# Altium footprint library TL1105AF160Q.PcbLib: 1 footprints
Each footprint in its own frame and in the unit in brackets; x right, y up, seen from the top. Pads: shape width x height; smd on the part's side, far side on the other; paste and mask are expansions set on the pad; w line width, h text height; cw(c..) or ccw(c..) is an arc to the next point about the centre after c.
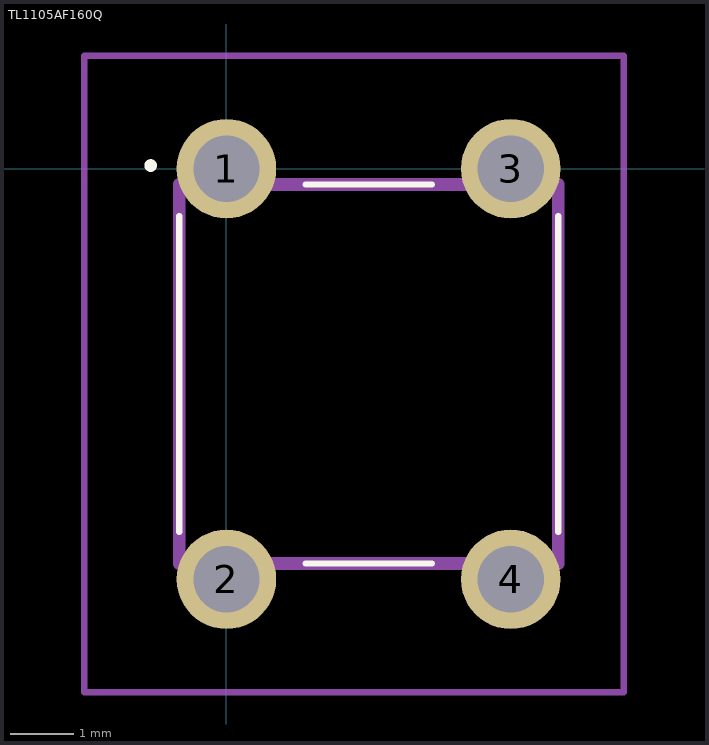
[diagram p0: the footprint, top view; thin cyan lines are the x and y axes]

## TL1105AF160Q [mm]
pads (4):
  round 1.575 hole 1.05: 1(0,0) 2(0,-6.5) 3(4.5,0) 4(4.5,-6.5)
Top Overlay:
  lines w0.1: -0.75,-5.75 -0.75,-0.75 ; 1.25,-6.25 3.25,-6.25 ; 1.25,-0.25 3.25,-0.25 ; 5.25,-5.75 5.25,-0.75 ; -1.2,0 cw(c-1.2,0.05) -1.2,0.1 cw(c-1.2,0.05) -1.2,0
Mechanical 15:
  lines w0.2: -0.75,-6.25 -0.75,-0.25 5.25,-0.25 5.25,-6.25 -0.75,-6.25
Mechanical 20:
  lines w0.1: -2.25,-8.287 -2.25,1.787 6.287,1.787 6.287,-8.287 -2.25,-8.287
3D body "TL1105AF160Q.stp": height 6.9, standoff -5, extent -0.92,-6.849 5.08,0.499